# Altium schematic symbol library PTC,30V,500mA,1812.Schlib: 1 symbol
Pins are listed as number, name and electrical type; pins without a type are passive.

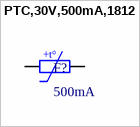
[diagram p0: symbol PTC,30V,500mA,1812]

## PTC,30V,500mA,1812
designator F?, comment 500mA
pins: 1, 2
text: +t°